# Altium footprint library lib.PcbLib: 4 footprints
Each footprint in its own frame and in the unit in brackets; x right, y up, seen from the top. Pads: shape width x height; smd on the part's side, far side on the other; paste and mask are expansions set on the pad; w line width, h text height; cw(c..) or ccw(c..) is an arc to the next point about the centre after c.
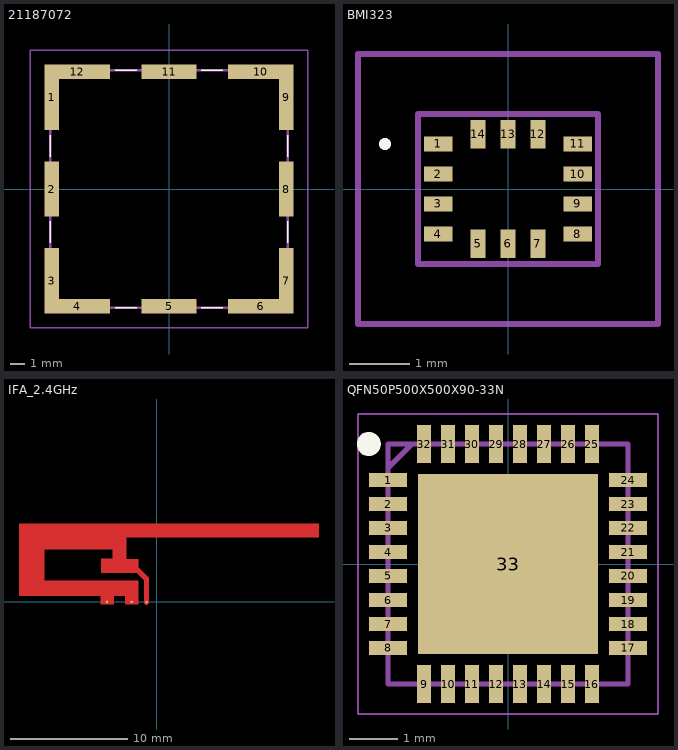
[diagram p0: the footprints below, top view; thin cyan lines are the x and y axes]

## 21187072 [mm]
pads (12):
  rect 1x4.55 smd: 1(-8.15,6.375) 3(-8.15,-6.375) 7(8.15,-6.375) 9(8.15,6.375)
  rect 1x3.8 smd: 2(-8.15,0) 8(8.15,0)
  rect 4.55x1 smd: 4(-6.375,-8.15) 6(6.375,-8.15) 10(6.375,8.15) 12(-6.375,8.15)
  rect 3.8x1 smd: 5(0,-8.15) 11(0,8.15)
Top Overlay:
  lines w0.1: -8.25,-3.75 -8.25,-2.25 -8.25,-3.75 ; -8.25,2.25 -8.25,3.75 -8.25,2.25 ; -3.75,-8.25 -2.25,-8.25 -3.75,-8.25 ; -3.75,8.25 -2.25,8.25 -3.75,8.25 ; 2.25,-8.25 3.75,-8.25 2.25,-8.25 ; 2.25,8.25 3.75,8.25 2.25,8.25 ; 8.25,-3.75 8.25,-2.25 8.25,-3.75 ; 8.25,2.25 8.25,3.75 8.25,2.25
Mechanical 13:
  lines w0.2: -8.25,-8.25 -8.25,8.25 8.25,8.25 8.25,-8.25 -8.25,-8.25
Mechanical 15:
  lines w0.1: -9.65,-9.65 -9.65,9.65 9.65,9.65 9.65,-9.65 -9.65,-9.65
3D body "2118707-2.stp": height 3.6, standoff 0, extent -8.25,-8.25 8.25,8.25

## BMI323 [mm]
pads (14):
  rect 0.475x0.25 smd: 1(-1.163,0.75) 2(-1.163,0.25) 3(-1.163,-0.25) 4(-1.163,-0.75) 8(1.163,-0.75) 9(1.163,-0.25) 10(1.163,0.25) 11(1.163,0.75)
  rect 0.25x0.475 smd: 5(-0.5,-0.913) 6(0,-0.913) 7(0.5,-0.913) 12(0.5,0.913) 13(0,0.913) 14(-0.5,0.913)
Top Overlay:
  lines w0.1: -2.1,0.75 cw(c-2.05,0.75) -2,0.75 cw(c-2.05,0.75) -2.1,0.75
Mechanical 13:
  lines w0.1: -1.5,-1.25 -1.5,1.25 1.5,1.25 1.5,-1.25 -1.5,-1.25
Mechanical 15:
  lines w0.1: -2.5,-2.25 -2.5,2.25 2.5,2.25 2.5,-2.25 -2.5,-2.25
3D body "BMI323.stp": height 0.84, standoff 0, extent -1.5,-1.25 1.5,1.25

## IFA_2.4GHz [mm]
pads (3):
  round 0.2 smd: 1(-0.855,-0.05) 2(-2.125,-0.025) 3(-4.225,-0.025)
Top Layer:
  rectangle: -11.729,5.455 13.851,6.665
  rectangle: -11.729,0.495 -9.549,6.665
  rectangle: -11.729,0.495 -1.549,1.785
  rectangle: -4.775,-0.25 -3.625,1.78
  rectangle: -2.699,-0.245 -1.549,1.785
  rectangle: -4.749,2.445 -2.549,3.655
  rectangle: -3.75,2.44 -1.55,3.65
  rectangle: -3.749,2.445 -2.549,5.455
  rectangle: -11.729,4.455 -2.549,6.665
  lines w0.457: -1.708,2.79 -0.855,1.937 -0.855,-0.05

## QFN50P500X500X90-33N [mm]
pads (33):
  rect 0.8x0.3 smd: 1(-2.5,1.75) 2(-2.5,1.25) 3(-2.5,0.75) 4(-2.5,0.25) 5(-2.5,-0.25) 6(-2.5,-0.75) 7(-2.5,-1.25) 8(-2.5,-1.75) 17(2.5,-1.75) 18(2.5,-1.25) 19(2.5,-0.75) 20(2.5,-0.25) 21(2.5,0.25) 22(2.5,0.75) 23(2.5,1.25) 24(2.5,1.75)
  rect 0.3x0.8 smd: 9(-1.75,-2.5) 10(-1.25,-2.5) 11(-0.75,-2.5) 12(-0.25,-2.5) 13(0.25,-2.5) 14(0.75,-2.5) 15(1.25,-2.5) 16(1.75,-2.5) 25(1.75,2.5) 26(1.25,2.5) 27(0.75,2.5) 28(0.25,2.5) 29(-0.25,2.5) 30(-0.75,2.5) 31(-1.25,2.5) 32(-1.75,2.5)
  rect 3.75x3.75 smd: 33(0,0)
Top Overlay:
  circle w0.25: c-2.9,2.5 r0.125
Mechanical 13:
  lines w0.1: -2.5,2 -2,2.5 ; -2.5,-2.5 2.5,-2.5 2.5,2.5 -2.5,2.5 -2.5,-2.5
Mechanical 15:
  lines w0.05: -3.125,-3.125 3.125,-3.125 3.125,3.125 -3.125,3.125 -3.125,-3.125
3D body "ESP32-C6FH4.stp": height 0.9, standoff 0, extent -2.55,-2.55 2.55,2.55